# EAGLE library part SWITCH-DPDT-7X7 (library TA_library)
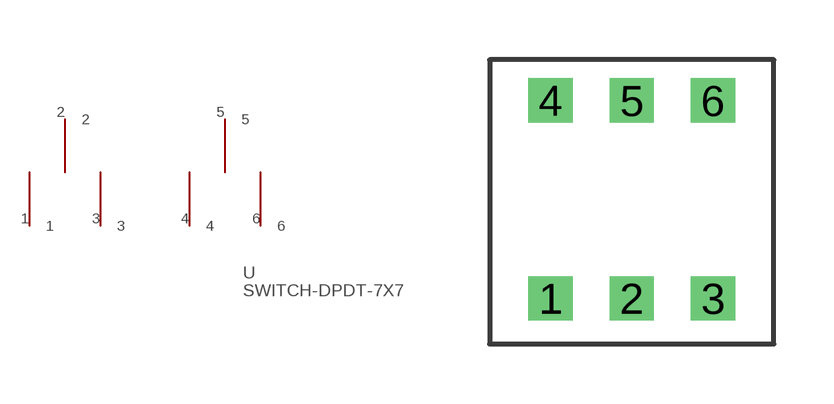
[diagram p0: symbol with the pads of TL-2230; footprint TL-2230]

Designator prefix -

## SWITCH-DPDT-7X7A  [TL-2230]
1  1
2  2
3  3
4  4
5  5
6  6

## Footprint TL-2230 (pad centres in mm)
drill 0.6 square: 1 -8.636,-2.667; 2 -6.604,-2.667; 3 -4.572,-2.667; 4 -8.636,2.286; 5 -6.604,2.286; 6 -4.572,2.286